# EAGLE library part AD637 (library analog-devices)
RMS-to-DC Converter
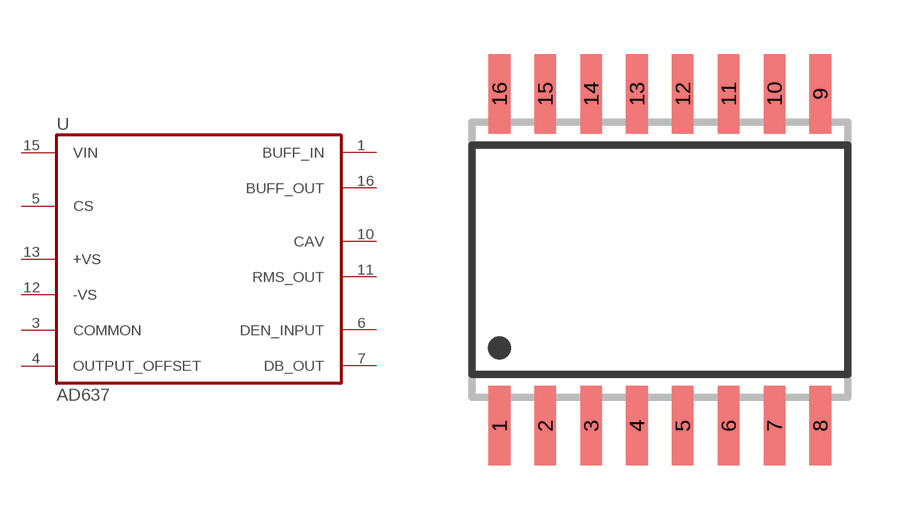
[diagram p94: symbol with the pads of SO16W; footprint SO16W]

Designator prefix U

## AD637  [SO16W]
1  BUFF_IN  in
3  COMMON  pas
4  OUTPUT_OFFSET  pas
5  CS  in
6  DEN_INPUT  in
7  DB_OUT  out
10  CAV  pas
11  RMS_OUT  pas
12  -VS  pwr
13  +VS  pwr
15  VIN  in
16  BUFF_OUT  out

## Footprint SO16W (pad centres in mm)
SMALL OUTLINE INTEGRATED CIRCUIT wide body 7.5 mm/JEDEC MS-013AA
smd 0.6 x 2.2: 1 -4.445,-4.6; 2 -3.175,-4.6; 3 -1.905,-4.6; 4 -0.635,-4.6; 5 0.635,-4.6; 6 1.905,-4.6; 7 3.175,-4.6; 8 4.445,-4.6; 9 4.445,4.6; 10 3.175,4.6; 11 1.905,4.6; 12 0.635,4.6; 13 -0.635,4.6; 14 -1.905,4.6; 15 -3.175,4.6; 16 -4.445,4.6